# Altium schematic symbol library NX3225GD-8MHZ-STD-CRA-3.SchLib: 1 symbol
Pins are listed as number, name and electrical type; pins without a type are passive.

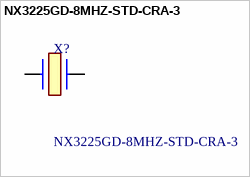
[diagram p0: symbol NX3225GD-8MHZ-STD-CRA-3]

## NX3225GD-8MHZ-STD-CRA-3
designator X?
A small surface-mount type crystal unit, ideal for an engine control CPU clock; delivering the high reliability that is particularly demanded by autom; Manufacturer_Name: NDK; Geometry.Height: 1mm; Mouser Part Number: 344-NX3225GD8MCRA3; Mouser Price/Stock: https://www.mouser.co.uk/ProductDetail/NDK/NX3225GD-8MHZ-STD-CRA-3?qs=55YtniHzbhDA0fw3anYH2g%3D%3D; Manufacturer_Part_Number: NX3225GD-8MHZ-STD-CRA-3; Datasheet Link: *
footprint NX3225GD8MHZSTDCRA3
pins: 1, 2